# Altium schematic symbol library SCH - OPAMP - AD8629ARZ.SchLib: 1 symbol
Pins are listed as number, name and electrical type; pins without a type are passive.

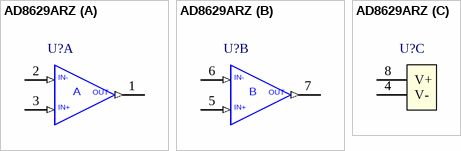
[diagram p0: symbol AD8629ARZ]

## AD8629ARZ
designator U?
part A pins: 1 OUT A (out), 2 -IN A (in), 3 +IN A (in)
part B pins: 5 +IN B (in), 6 -IN B (in), 7 OUT B (out)
part C pins: 4 V- (power), 8 V+ (power)
part A text: IN-; OUT; A; IN+
part B text: IN-; OUT; B; IN+